# Altium schematic symbol library Maxim Amplifiers and Comparators.SchLib: 420 symbols (part 9 of 16)
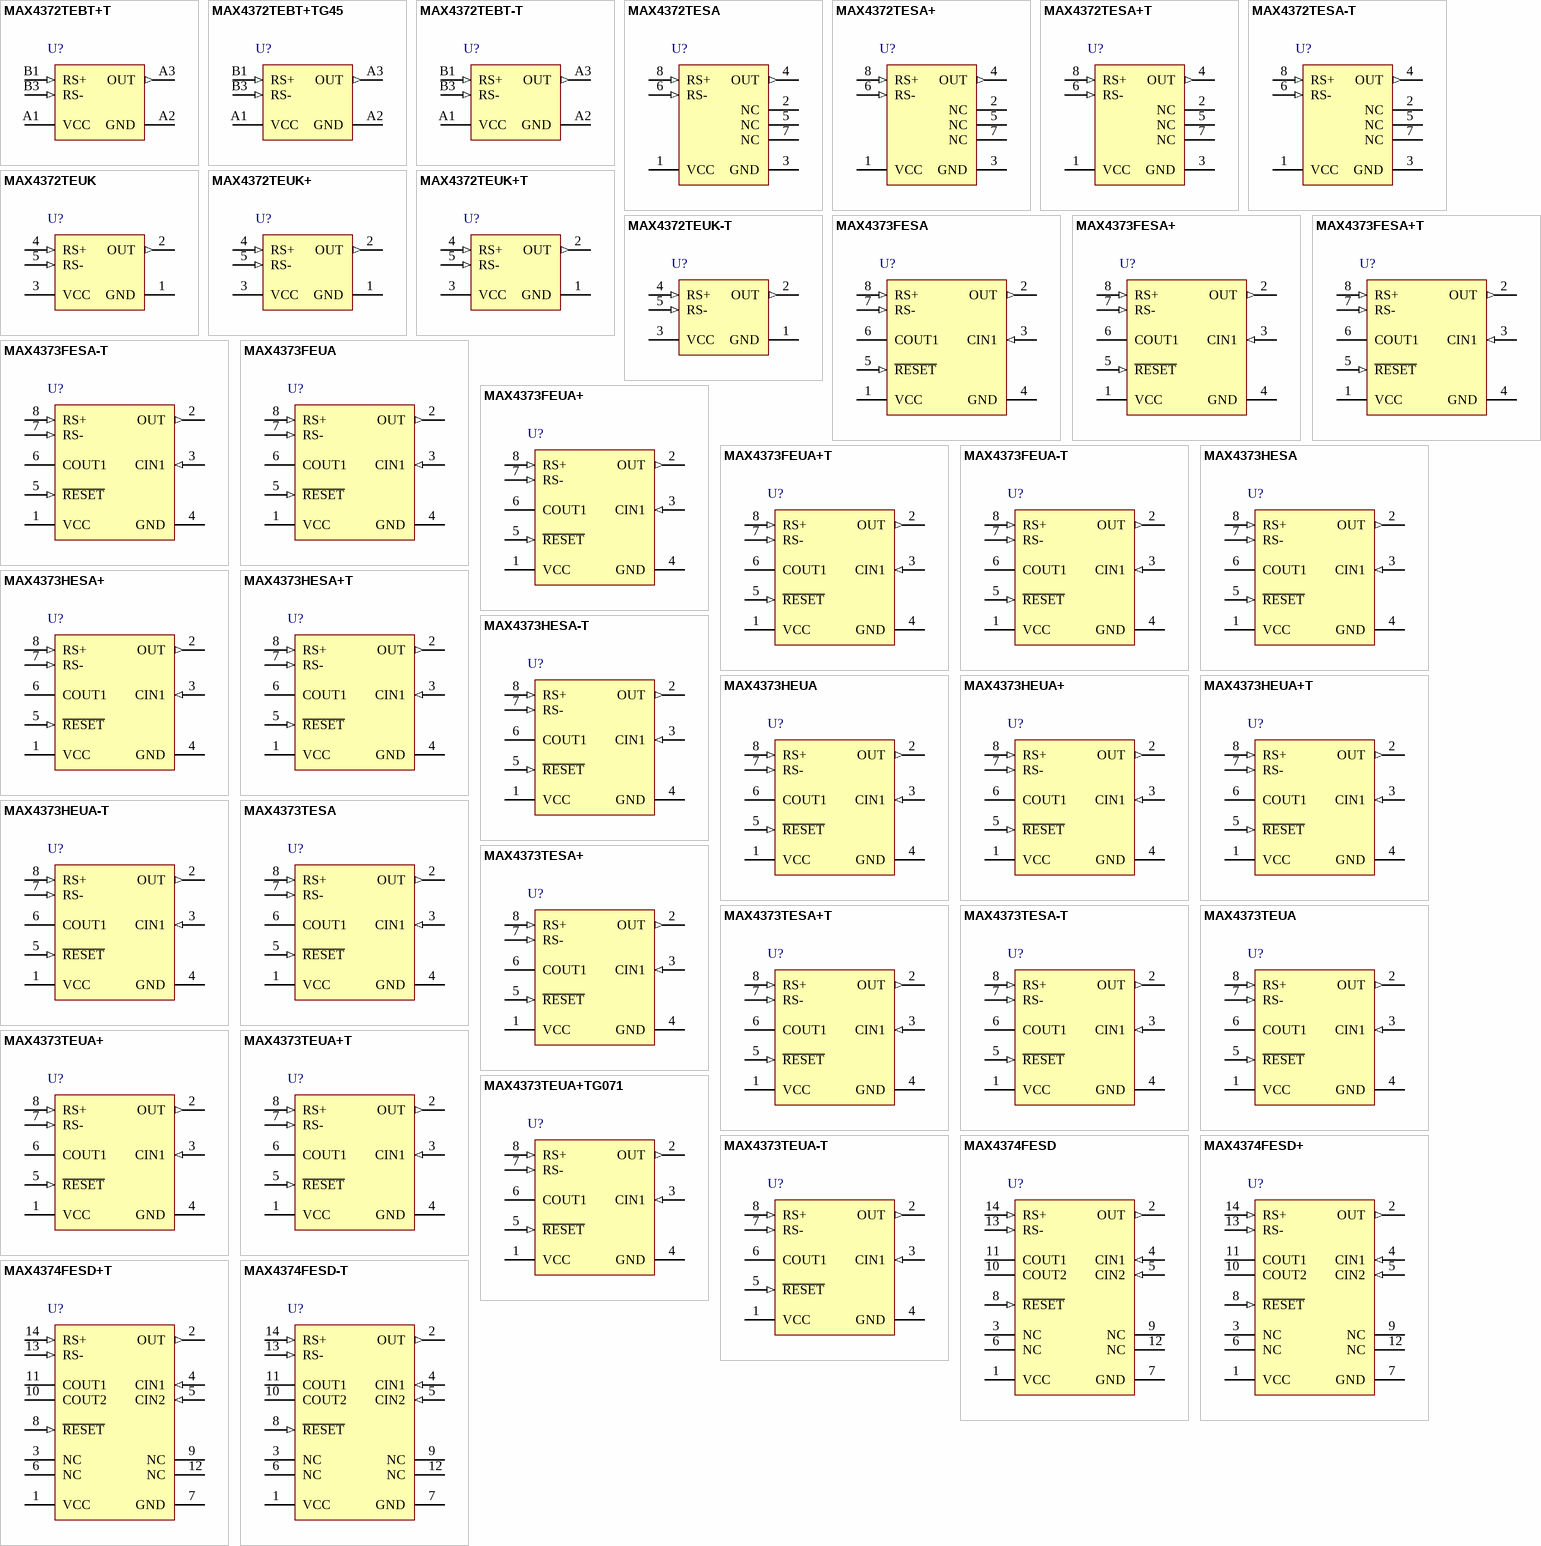
[diagram p18: symbols MAX4372TEBT+T to MAX4374FESD-T]

## MAX4373FESA+
designator U?
Low-cost, Micropower, High-Side Current-Sense Amplifier + Comparator + Reference, 20 V / V Gain, -40 to 85 degC, 8-Pin SOIC (S8+2), Pb-Free; PartNumber: MAX4373FESA+; Bi-Dir. Curr. Sense: No; Gain: 20 V/V, 50 V/V ,100 V/V; DatasheetVersion: Rev. 4; PackageVersion: Rev. D, 10/2012; PackageReference: S8+2; PackageDescription: 8-Pin Small-Outline IC, Narrow (0.15in) (S8+2), Body 4.90 x 3.90 mm, Pitch 1.27 mm; Supplier 1: Digi-Key; Supplier Part Number 1: MAX4373FESA+-ND; Supplier 2: Mouser; Supplier Part Number 2: 700-MAX4373FESA; Mounting Technology: Surface Mount; Code_JEDEC: MS012; ComponentLink1Description: Manufacturer URL; ComponentLink1URL: http://www.maximintegrated.com/; ComponentLink2Description: Datasheet; ComponentLink2URL: http://datasheets.maximintegrated.com/en/ds/MAX4373-MAX4375.pdf; ComponentLink3Description: Package Specification; ComponentLink3URL: http://pdfserv.maximintegrated.com/package_dwgs/21-0041.PDF
footprint MAXM-S8+2_N (SOIC, 8-Leads, Body 4.90x3.90mm, Pitch 1.27mm, IPC Medium Density)
footprint MAXM-S8+2_L (SOIC, 8-Leads, Body 4.90x3.90mm, Pitch 1.27mm, IPC High Density)
footprint MAXM-S8+2_M (SOIC, 8-Leads, Body 4.90x3.90mm, Pitch 1.27mm, IPC Low Density)
pins: 1 VCC (power) "Supply Voltage Input", 2 OUT (out) "Voltage Output. VOUT is proportional to VSENSE (VRS+ - VRS-).", 3 CIN1 (in) "Comparator Input 1. Positive input of an internal comparator. The negative terminal is connected to a 0.6V internal reference.", 4 GND (power) "Ground", 5 ~{RESET} (in) "Reset Input. Resets the output latch of the comparator at CIN1.", 6 COUT1 (oc) "Open-Drain Comparator Output. Latching output of the comparator controlled by CIN1. Connect R\E\S\E\T\ to GND to disable the latch.", 7 RS- (in) "Load-Side Connection for the External Sense Resistor", 8 RS+ (in) "Power Connection to the External Sense Resistor"

## MAX4373FESA+T
designator U?
Low-cost, Micropower, High-Side Current-Sense Amplifier + Comparator + Reference, 20 V / V Gain, -40 to 85 degC, 8-Pin SOIC (S8+2), Pb-Free, Tape and Reel; PartNumber: MAX4373FESA+T; Bi-Dir. Curr. Sense: No; Gain: 20 V/V, 50 V/V ,100 V/V; DatasheetVersion: Rev. 4; PackageVersion: Rev. D, 10/2012; PackageReference: S8+2; PackageDescription: 8-Pin Small-Outline IC, Narrow (0.15in) (S8+2), Body 4.90 x 3.90 mm, Pitch 1.27 mm; Supplier 1: Digi-Key; Supplier Part Number 1: MAX4373FESA+T-ND; Supplier 2: Mouser; Supplier Part Number 2: 700-MAX4373FESA+T; Mounting Technology: Surface Mount; Code_JEDEC: MS012; ComponentLink1Description: Manufacturer URL; ComponentLink1URL: http://www.maximintegrated.com/; ComponentLink2Description: Datasheet; ComponentLink2URL: http://datasheets.maximintegrated.com/en/ds/MAX4373-MAX4375.pdf; ComponentLink3Description: Package Specification; ComponentLink3URL: http://pdfserv.maximintegrated.com/package_dwgs/21-0041.PDF
footprint MAXM-S8+2_N (SOIC, 8-Leads, Body 4.90x3.90mm, Pitch 1.27mm, IPC Medium Density)
footprint MAXM-S8+2_L (SOIC, 8-Leads, Body 4.90x3.90mm, Pitch 1.27mm, IPC High Density)
footprint MAXM-S8+2_M (SOIC, 8-Leads, Body 4.90x3.90mm, Pitch 1.27mm, IPC Low Density)
pins: 1 VCC (power) "Supply Voltage Input", 2 OUT (out) "Voltage Output. VOUT is proportional to VSENSE (VRS+ - VRS-).", 3 CIN1 (in) "Comparator Input 1. Positive input of an internal comparator. The negative terminal is connected to a 0.6V internal reference.", 4 GND (power) "Ground", 5 ~{RESET} (in) "Reset Input. Resets the output latch of the comparator at CIN1.", 6 COUT1 (oc) "Open-Drain Comparator Output. Latching output of the comparator controlled by CIN1. Connect R\E\S\E\T\ to GND to disable the latch.", 7 RS- (in) "Load-Side Connection for the External Sense Resistor", 8 RS+ (in) "Power Connection to the External Sense Resistor"

## MAX4373FESA-T
designator U?
Low-cost, Micropower, High-Side Current-Sense Amplifier + Comparator + Reference, 20 V / V Gain, -40 to 85 degC, 8-Pin SOIC (S8-2), Tape and Reel; PartNumber: MAX4373FESA-T; Bi-Dir. Curr. Sense: No; Gain: 20 V/V, 50 V/V ,100 V/V; DatasheetVersion: Rev. 4; PackageVersion: Rev. D, 10/2012; PackageReference: S8-2; PackageDescription: 8-Pin Small-Outline IC, Narrow (0.15in) (S8-2), Body 4.90 x 3.90 mm, Pitch 1.27 mm; Supplier 1: Digi-Key; Supplier Part Number 1: MAX4373FESA-T-ND; Supplier 2: Mouser; Supplier Part Number 2: 700-MAX4373FESA-T-; Mounting Technology: Surface Mount; Code_JEDEC: MS012; ComponentLink1Description: Manufacturer URL; ComponentLink1URL: http://www.maximintegrated.com/; ComponentLink2Description: Datasheet; ComponentLink2URL: http://datasheets.maximintegrated.com/en/ds/MAX4373-MAX4375.pdf; ComponentLink3Description: Package Specification; ComponentLink3URL: http://pdfserv.maximintegrated.com/package_dwgs/21-0041.PDF
footprint MAXM-S8-2_N (SOIC, 8-Leads, Body 4.90x3.90mm, Pitch 1.27mm, IPC Medium Density)
footprint MAXM-S8-2_L (SOIC, 8-Leads, Body 4.90x3.90mm, Pitch 1.27mm, IPC High Density)
footprint MAXM-S8-2_M (SOIC, 8-Leads, Body 4.90x3.90mm, Pitch 1.27mm, IPC Low Density)
pins: 1 VCC (power) "Supply Voltage Input", 2 OUT (out) "Voltage Output. VOUT is proportional to VSENSE (VRS+ - VRS-).", 3 CIN1 (in) "Comparator Input 1. Positive input of an internal comparator. The negative terminal is connected to a 0.6V internal reference.", 4 GND (power) "Ground", 5 ~{RESET} (in) "Reset Input. Resets the output latch of the comparator at CIN1.", 6 COUT1 (oc) "Open-Drain Comparator Output. Latching output of the comparator controlled by CIN1. Connect R\E\S\E\T\ to GND to disable the latch.", 7 RS- (in) "Load-Side Connection for the External Sense Resistor", 8 RS+ (in) "Power Connection to the External Sense Resistor"

## MAX4373FEUA
designator U?
Low-cost, Micropower, High-Side Current-Sense Amplifier + Comparator + Reference, 20 V / V Gain, -40 to 85 degC, 8-Pin SOP (U8-1); PartNumber: MAX4373FEUA; Bi-Dir. Curr. Sense: No; Gain: 20 V/V, 50 V/V ,100 V/V; DatasheetVersion: Rev. 4; PackageVersion: Rev. L, 08/2009; PackageReference: U8-1; PackageDescription: 8-Pin Micro-MAX, Thin Shrink Small-Outline (U8-1), Body 3 x 3 mm, Pitch 0.65mm; Supplier 1: Digi-Key; Supplier Part Number 1: MAX4373FEUA-ND; Supplier 2: Mouser; Supplier Part Number 2: 700-MAX4373FEUA-NR; Mounting Technology: Surface Mount; Code_JEDEC: MO-187; ComponentLink1Description: Manufacturer URL; ComponentLink1URL: http://www.maximintegrated.com/; ComponentLink2Description: Datasheet; ComponentLink2URL: http://datasheets.maximintegrated.com/en/ds/MAX4373-MAX4375.pdf; ComponentLink3Description: Package Specification; ComponentLink3URL: http://pdfserv.maximintegrated.com/package_dwgs/21-0036.PDF
footprint MAXM-U8-1_N (SOP, 8-Leads, Body 3x3mm, Pitch 0.65mm, IPC Medium Density)
footprint MAXM-U8-1_L (SOP, 8-Leads, Body 3x3mm, Pitch 0.65mm, IPC High Density)
footprint MAXM-U8-1_M (SOP, 8-Leads, Body 3x3mm, Pitch 0.65mm, IPC Low Density)
pins: 1 VCC (power) "Supply Voltage Input", 2 OUT (out) "Voltage Output. VOUT is proportional to VSENSE (VRS+ - VRS-).", 3 CIN1 (in) "Comparator Input 1. Positive input of an internal comparator. The negative terminal is connected to a 0.6V internal reference.", 4 GND (power) "Ground", 5 ~{RESET} (in) "Reset Input. Resets the output latch of the comparator at CIN1.", 6 COUT1 (oc) "Open-Drain Comparator Output. Latching output of the comparator controlled by CIN1. Connect R\E\S\E\T\ to GND to disable the latch.", 7 RS- (in) "Load-Side Connection for the External Sense Resistor", 8 RS+ (in) "Power Connection to the External Sense Resistor"

## MAX4373FEUA+
designator U?
Low-cost, Micropower, High-Side Current-Sense Amplifier + Comparator + Reference, 20 V / V Gain, -40 to 85 degC, 8-Pin SOP (U8+1), Pb-Free; PartNumber: MAX4373FEUA+; Bi-Dir. Curr. Sense: No; Gain: 20 V/V, 50 V/V ,100 V/V; DatasheetVersion: Rev. 4; PackageVersion: Rev. L, 08/2009; PackageReference: U8+1; PackageDescription: 8-Pin Micro-MAX, Thin Shrink Small-Outline (U8+1), Body 3 x 3 mm, Pitch 0.65 mm; Supplier 1: Digi-Key; Supplier Part Number 1: MAX4373FEUA+-ND; Supplier 2: Mouser; Supplier Part Number 2: 700-MAX4373FEUA; Mounting Technology: Surface Mount; Code_JEDEC: MO-187; ComponentLink1Description: Manufacturer URL; ComponentLink1URL: http://www.maximintegrated.com/; ComponentLink2Description: Datasheet; ComponentLink2URL: http://datasheets.maximintegrated.com/en/ds/MAX4373-MAX4375.pdf; ComponentLink3Description: Package Specification; ComponentLink3URL: http://pdfserv.maximintegrated.com/package_dwgs/21-0036.PDF
footprint MAXM-U8+1_N (SOP, 8-Leads, Body 3x3mm, Pitch 0.65mm, IPC Medium Density)
footprint MAXM-U8+1_L (SOP, 8-Leads, Body 3x3mm, Pitch 0.65mm, IPC High Density)
footprint MAXM-U8+1_M (SOP, 8-Leads, Body 3x3mm, Pitch 0.65mm, IPC Low Density)
pins: 1 VCC (power) "Supply Voltage Input", 2 OUT (out) "Voltage Output. VOUT is proportional to VSENSE (VRS+ - VRS-).", 3 CIN1 (in) "Comparator Input 1. Positive input of an internal comparator. The negative terminal is connected to a 0.6V internal reference.", 4 GND (power) "Ground", 5 ~{RESET} (in) "Reset Input. Resets the output latch of the comparator at CIN1.", 6 COUT1 (oc) "Open-Drain Comparator Output. Latching output of the comparator controlled by CIN1. Connect R\E\S\E\T\ to GND to disable the latch.", 7 RS- (in) "Load-Side Connection for the External Sense Resistor", 8 RS+ (in) "Power Connection to the External Sense Resistor"

## MAX4373FEUA+T
designator U?
Low-cost, Micropower, High-Side Current-Sense Amplifier + Comparator + Reference, 20 V / V Gain, -40 to 85 degC, 8-Pin SOP (U8+1), Pb-Free, Tape and Reel; PartNumber: MAX4373FEUA+T; Bi-Dir. Curr. Sense: No; Gain: 20 V/V, 50 V/V ,100 V/V; DatasheetVersion: Rev. 4; PackageVersion: Rev. L, 08/2009; PackageReference: U8+1; PackageDescription: 8-Pin Micro-MAX, Thin Shrink Small-Outline (U8+1), Body 3 x 3 mm, Pitch 0.65 mm; Supplier 1: Digi-Key; Supplier Part Number 1: MAX4373FEUA+T-ND; Supplier 2: Mouser; Supplier Part Number 2: 700-MAX4373FEUA+T; Mounting Technology: Surface Mount; Code_JEDEC: MO-187; ComponentLink1Description: Manufacturer URL; ComponentLink1URL: http://www.maximintegrated.com/; ComponentLink2Description: Datasheet; ComponentLink2URL: http://datasheets.maximintegrated.com/en/ds/MAX4373-MAX4375.pdf; ComponentLink3Description: Package Specification; ComponentLink3URL: http://pdfserv.maximintegrated.com/package_dwgs/21-0036.PDF
footprint MAXM-U8+1_N (SOP, 8-Leads, Body 3x3mm, Pitch 0.65mm, IPC Medium Density)
footprint MAXM-U8+1_L (SOP, 8-Leads, Body 3x3mm, Pitch 0.65mm, IPC High Density)
footprint MAXM-U8+1_M (SOP, 8-Leads, Body 3x3mm, Pitch 0.65mm, IPC Low Density)
pins: 1 VCC (power) "Supply Voltage Input", 2 OUT (out) "Voltage Output. VOUT is proportional to VSENSE (VRS+ - VRS-).", 3 CIN1 (in) "Comparator Input 1. Positive input of an internal comparator. The negative terminal is connected to a 0.6V internal reference.", 4 GND (power) "Ground", 5 ~{RESET} (in) "Reset Input. Resets the output latch of the comparator at CIN1.", 6 COUT1 (oc) "Open-Drain Comparator Output. Latching output of the comparator controlled by CIN1. Connect R\E\S\E\T\ to GND to disable the latch.", 7 RS- (in) "Load-Side Connection for the External Sense Resistor", 8 RS+ (in) "Power Connection to the External Sense Resistor"

## MAX4373FEUA-T
designator U?
Low-cost, Micropower, High-Side Current-Sense Amplifier + Comparator + Reference, 20 V / V Gain, -40 to 85 degC, 8-Pin SOP (U8-1), Tape and Reel; PartNumber: MAX4373FEUA-T; Bi-Dir. Curr. Sense: No; Gain: 20 V/V, 50 V/V ,100 V/V; DatasheetVersion: Rev. 4; PackageVersion: Rev. L, 08/2009; PackageReference: U8-1; PackageDescription: 8-Pin Micro-MAX, Thin Shrink Small-Outline (U8-1), Body 3 x 3 mm, Pitch 0.65mm; Supplier 1: Digi-Key; Supplier Part Number 1: MAX4373FEUA-T-ND; Supplier 2: Mouser; Supplier Part Number 2: 700-MAX4373FEUA-T-; Mounting Technology: Surface Mount; Code_JEDEC: MO-187; ComponentLink1Description: Manufacturer URL; ComponentLink1URL: http://www.maximintegrated.com/; ComponentLink2Description: Datasheet; ComponentLink2URL: http://datasheets.maximintegrated.com/en/ds/MAX4373-MAX4375.pdf; ComponentLink3Description: Package Specification; ComponentLink3URL: http://pdfserv.maximintegrated.com/package_dwgs/21-0036.PDF
footprint MAXM-U8-1_N (SOP, 8-Leads, Body 3x3mm, Pitch 0.65mm, IPC Medium Density)
footprint MAXM-U8-1_L (SOP, 8-Leads, Body 3x3mm, Pitch 0.65mm, IPC High Density)
footprint MAXM-U8-1_M (SOP, 8-Leads, Body 3x3mm, Pitch 0.65mm, IPC Low Density)
pins: 1 VCC (power) "Supply Voltage Input", 2 OUT (out) "Voltage Output. VOUT is proportional to VSENSE (VRS+ - VRS-).", 3 CIN1 (in) "Comparator Input 1. Positive input of an internal comparator. The negative terminal is connected to a 0.6V internal reference.", 4 GND (power) "Ground", 5 ~{RESET} (in) "Reset Input. Resets the output latch of the comparator at CIN1.", 6 COUT1 (oc) "Open-Drain Comparator Output. Latching output of the comparator controlled by CIN1. Connect R\E\S\E\T\ to GND to disable the latch.", 7 RS- (in) "Load-Side Connection for the External Sense Resistor", 8 RS+ (in) "Power Connection to the External Sense Resistor"

## MAX4373HESA
designator U?
Low-cost, Micropower, High-Side Current-Sense Amplifier + Comparator + Reference, 20 V / V Gain, -40 to 85 degC, 8-Pin SOIC (S8-2); PartNumber: MAX4373HESA; Bi-Dir. Curr. Sense: No; Gain: 20 V/V, 50 V/V ,100 V/V; DatasheetVersion: Rev. 4; PackageVersion: Rev. D, 10/2012; PackageReference: S8-2; PackageDescription: 8-Pin Small-Outline IC, Narrow (0.15in) (S8-2), Body 4.90 x 3.90 mm, Pitch 1.27 mm; Supplier 1: Digi-Key; Supplier Part Number 1: MAX4373HESA-ND; Supplier 2: Mouser; Supplier Part Number 2: 700-MAX4373HESA-NR; Mounting Technology: Surface Mount; Code_JEDEC: MS012; ComponentLink1Description: Manufacturer URL; ComponentLink1URL: http://www.maximintegrated.com/; ComponentLink2Description: Datasheet; ComponentLink2URL: http://datasheets.maximintegrated.com/en/ds/MAX4373-MAX4375.pdf; ComponentLink3Description: Package Specification; ComponentLink3URL: http://pdfserv.maximintegrated.com/package_dwgs/21-0041.PDF
footprint MAXM-S8-2_N (SOIC, 8-Leads, Body 4.90x3.90mm, Pitch 1.27mm, IPC Medium Density)
footprint MAXM-S8-2_L (SOIC, 8-Leads, Body 4.90x3.90mm, Pitch 1.27mm, IPC High Density)
footprint MAXM-S8-2_M (SOIC, 8-Leads, Body 4.90x3.90mm, Pitch 1.27mm, IPC Low Density)
pins: 1 VCC (power) "Supply Voltage Input", 2 OUT (out) "Voltage Output. VOUT is proportional to VSENSE (VRS+ - VRS-).", 3 CIN1 (in) "Comparator Input 1. Positive input of an internal comparator. The negative terminal is connected to a 0.6V internal reference.", 4 GND (power) "Ground", 5 ~{RESET} (in) "Reset Input. Resets the output latch of the comparator at CIN1.", 6 COUT1 (oc) "Open-Drain Comparator Output. Latching output of the comparator controlled by CIN1. Connect R\E\S\E\T\ to GND to disable the latch.", 7 RS- (in) "Load-Side Connection for the External Sense Resistor", 8 RS+ (in) "Power Connection to the External Sense Resistor"

## MAX4373HESA+
designator U?
Low-cost, Micropower, High-Side Current-Sense Amplifier + Comparator + Reference, 20 V / V Gain, -40 to 85 degC, 8-Pin SOIC (S8+2), Pb-Free; PartNumber: MAX4373HESA+; Bi-Dir. Curr. Sense: No; Gain: 20 V/V, 50 V/V ,100 V/V; DatasheetVersion: Rev. 4; PackageVersion: Rev. D, 10/2012; PackageReference: S8+2; PackageDescription: 8-Pin Small-Outline IC, Narrow (0.15in) (S8+2), Body 4.90 x 3.90 mm, Pitch 1.27 mm; Supplier 1: Digi-Key; Supplier Part Number 1: MAX4373HESA+-ND; Supplier 2: Mouser; Supplier Part Number 2: 700-MAX4373HESA; Mounting Technology: Surface Mount; Code_JEDEC: MS012; ComponentLink1Description: Manufacturer URL; ComponentLink1URL: http://www.maximintegrated.com/; ComponentLink2Description: Datasheet; ComponentLink2URL: http://datasheets.maximintegrated.com/en/ds/MAX4373-MAX4375.pdf; ComponentLink3Description: Package Specification; ComponentLink3URL: http://pdfserv.maximintegrated.com/package_dwgs/21-0041.PDF
footprint MAXM-S8+2_N (SOIC, 8-Leads, Body 4.90x3.90mm, Pitch 1.27mm, IPC Medium Density)
footprint MAXM-S8+2_L (SOIC, 8-Leads, Body 4.90x3.90mm, Pitch 1.27mm, IPC High Density)
footprint MAXM-S8+2_M (SOIC, 8-Leads, Body 4.90x3.90mm, Pitch 1.27mm, IPC Low Density)
pins: 1 VCC (power) "Supply Voltage Input", 2 OUT (out) "Voltage Output. VOUT is proportional to VSENSE (VRS+ - VRS-).", 3 CIN1 (in) "Comparator Input 1. Positive input of an internal comparator. The negative terminal is connected to a 0.6V internal reference.", 4 GND (power) "Ground", 5 ~{RESET} (in) "Reset Input. Resets the output latch of the comparator at CIN1.", 6 COUT1 (oc) "Open-Drain Comparator Output. Latching output of the comparator controlled by CIN1. Connect R\E\S\E\T\ to GND to disable the latch.", 7 RS- (in) "Load-Side Connection for the External Sense Resistor", 8 RS+ (in) "Power Connection to the External Sense Resistor"

## MAX4373HESA+T
designator U?
Low-cost, Micropower, High-Side Current-Sense Amplifier + Comparator + Reference, 20 V / V Gain, -40 to 85 degC, 8-Pin SOIC (S8+2), Pb-Free, Tape and Reel; PartNumber: MAX4373HESA+T; Bi-Dir. Curr. Sense: No; Gain: 20 V/V, 50 V/V ,100 V/V; DatasheetVersion: Rev. 4; PackageVersion: Rev. D, 10/2012; PackageReference: S8+2; PackageDescription: 8-Pin Small-Outline IC, Narrow (0.15in) (S8+2), Body 4.90 x 3.90 mm, Pitch 1.27 mm; Supplier 1: Digi-Key; Supplier Part Number 1: MAX4373HESA+T-ND; Supplier 2: Mouser; Supplier Part Number 2: 700-MAX4373HESA+T; Mounting Technology: Surface Mount; Code_JEDEC: MS012; ComponentLink1Description: Manufacturer URL; ComponentLink1URL: http://www.maximintegrated.com/; ComponentLink2Description: Datasheet; ComponentLink2URL: http://datasheets.maximintegrated.com/en/ds/MAX4373-MAX4375.pdf; ComponentLink3Description: Package Specification; ComponentLink3URL: http://pdfserv.maximintegrated.com/package_dwgs/21-0041.PDF
footprint MAXM-S8+2_N (SOIC, 8-Leads, Body 4.90x3.90mm, Pitch 1.27mm, IPC Medium Density)
footprint MAXM-S8+2_L (SOIC, 8-Leads, Body 4.90x3.90mm, Pitch 1.27mm, IPC High Density)
footprint MAXM-S8+2_M (SOIC, 8-Leads, Body 4.90x3.90mm, Pitch 1.27mm, IPC Low Density)
pins: 1 VCC (power) "Supply Voltage Input", 2 OUT (out) "Voltage Output. VOUT is proportional to VSENSE (VRS+ - VRS-).", 3 CIN1 (in) "Comparator Input 1. Positive input of an internal comparator. The negative terminal is connected to a 0.6V internal reference.", 4 GND (power) "Ground", 5 ~{RESET} (in) "Reset Input. Resets the output latch of the comparator at CIN1.", 6 COUT1 (oc) "Open-Drain Comparator Output. Latching output of the comparator controlled by CIN1. Connect R\E\S\E\T\ to GND to disable the latch.", 7 RS- (in) "Load-Side Connection for the External Sense Resistor", 8 RS+ (in) "Power Connection to the External Sense Resistor"

## MAX4373HESA-T
designator U?
Low-cost, Micropower, High-Side Current-Sense Amplifier + Comparator + Reference, 20 V / V Gain, -40 to 85 degC, 8-Pin SOIC (S8-2), Tape and Reel; PartNumber: MAX4373HESA-T; Bi-Dir. Curr. Sense: No; Gain: 20 V/V, 50 V/V ,100 V/V; DatasheetVersion: Rev. 4; PackageVersion: Rev. D, 10/2012; PackageReference: S8-2; PackageDescription: 8-Pin Small-Outline IC, Narrow (0.15in) (S8-2), Body 4.90 x 3.90 mm, Pitch 1.27 mm; Supplier 1: Digi-Key; Supplier Part Number 1: MAX4373HESA-T-ND; Supplier 2: Mouser; Supplier Part Number 2: 700-MAX4373HESA-T-; Mounting Technology: Surface Mount; Code_JEDEC: MS012; ComponentLink1Description: Manufacturer URL; ComponentLink1URL: http://www.maximintegrated.com/; ComponentLink2Description: Datasheet; ComponentLink2URL: http://datasheets.maximintegrated.com/en/ds/MAX4373-MAX4375.pdf; ComponentLink3Description: Package Specification; ComponentLink3URL: http://pdfserv.maximintegrated.com/package_dwgs/21-0041.PDF
footprint MAXM-S8-2_N (SOIC, 8-Leads, Body 4.90x3.90mm, Pitch 1.27mm, IPC Medium Density)
footprint MAXM-S8-2_L (SOIC, 8-Leads, Body 4.90x3.90mm, Pitch 1.27mm, IPC High Density)
footprint MAXM-S8-2_M (SOIC, 8-Leads, Body 4.90x3.90mm, Pitch 1.27mm, IPC Low Density)
pins: 1 VCC (power) "Supply Voltage Input", 2 OUT (out) "Voltage Output. VOUT is proportional to VSENSE (VRS+ - VRS-).", 3 CIN1 (in) "Comparator Input 1. Positive input of an internal comparator. The negative terminal is connected to a 0.6V internal reference.", 4 GND (power) "Ground", 5 ~{RESET} (in) "Reset Input. Resets the output latch of the comparator at CIN1.", 6 COUT1 (oc) "Open-Drain Comparator Output. Latching output of the comparator controlled by CIN1. Connect R\E\S\E\T\ to GND to disable the latch.", 7 RS- (in) "Load-Side Connection for the External Sense Resistor", 8 RS+ (in) "Power Connection to the External Sense Resistor"

## MAX4373HEUA
designator U?
Low-cost, Micropower, High-Side Current-Sense Amplifier + Comparator + Reference, 20 V / V Gain, -40 to 85 degC, 8-Pin SOP (U8-1); PartNumber: MAX4373HEUA; Bi-Dir. Curr. Sense: No; Gain: 20 V/V, 50 V/V ,100 V/V; DatasheetVersion: Rev. 4; PackageVersion: Rev. L, 08/2009; PackageReference: U8-1; PackageDescription: 8-Pin Micro-MAX, Thin Shrink Small-Outline (U8-1), Body 3 x 3 mm, Pitch 0.65mm; Supplier 1: Digi-Key; Supplier Part Number 1: MAX4373HEUA-ND; Supplier 2: Mouser; Supplier Part Number 2: 700-MAX4373HEUA-NR; Mounting Technology: Surface Mount; Code_JEDEC: MO-187; ComponentLink1Description: Manufacturer URL; ComponentLink1URL: http://www.maximintegrated.com/; ComponentLink2Description: Datasheet; ComponentLink2URL: http://datasheets.maximintegrated.com/en/ds/MAX4373-MAX4375.pdf; ComponentLink3Description: Package Specification; ComponentLink3URL: http://pdfserv.maximintegrated.com/package_dwgs/21-0036.PDF
footprint MAXM-U8-1_N (SOP, 8-Leads, Body 3x3mm, Pitch 0.65mm, IPC Medium Density)
footprint MAXM-U8-1_L (SOP, 8-Leads, Body 3x3mm, Pitch 0.65mm, IPC High Density)
footprint MAXM-U8-1_M (SOP, 8-Leads, Body 3x3mm, Pitch 0.65mm, IPC Low Density)
pins: 1 VCC (power) "Supply Voltage Input", 2 OUT (out) "Voltage Output. VOUT is proportional to VSENSE (VRS+ - VRS-).", 3 CIN1 (in) "Comparator Input 1. Positive input of an internal comparator. The negative terminal is connected to a 0.6V internal reference.", 4 GND (power) "Ground", 5 ~{RESET} (in) "Reset Input. Resets the output latch of the comparator at CIN1.", 6 COUT1 (oc) "Open-Drain Comparator Output. Latching output of the comparator controlled by CIN1. Connect R\E\S\E\T\ to GND to disable the latch.", 7 RS- (in) "Load-Side Connection for the External Sense Resistor", 8 RS+ (in) "Power Connection to the External Sense Resistor"

## MAX4373HEUA+
designator U?
Low-cost, Micropower, High-Side Current-Sense Amplifier + Comparator + Reference, 20 V / V Gain, -40 to 85 degC, 8-Pin SOP (U8+1), Pb-Free; PartNumber: MAX4373HEUA+; Bi-Dir. Curr. Sense: No; Gain: 20 V/V, 50 V/V ,100 V/V; DatasheetVersion: Rev. 4; PackageVersion: Rev. L, 08/2009; PackageReference: U8+1; PackageDescription: 8-Pin Micro-MAX, Thin Shrink Small-Outline (U8+1), Body 3 x 3 mm, Pitch 0.65 mm; Supplier 1: Digi-Key; Supplier Part Number 1: MAX4373HEUA+-ND; Supplier 2: Mouser; Supplier Part Number 2: 700-MAX4373HEUA; Mounting Technology: Surface Mount; Code_JEDEC: MO-187; ComponentLink1Description: Manufacturer URL; ComponentLink1URL: http://www.maximintegrated.com/; ComponentLink2Description: Datasheet; ComponentLink2URL: http://datasheets.maximintegrated.com/en/ds/MAX4373-MAX4375.pdf; ComponentLink3Description: Package Specification; ComponentLink3URL: http://pdfserv.maximintegrated.com/package_dwgs/21-0036.PDF
footprint MAXM-U8+1_N (SOP, 8-Leads, Body 3x3mm, Pitch 0.65mm, IPC Medium Density)
footprint MAXM-U8+1_L (SOP, 8-Leads, Body 3x3mm, Pitch 0.65mm, IPC High Density)
footprint MAXM-U8+1_M (SOP, 8-Leads, Body 3x3mm, Pitch 0.65mm, IPC Low Density)
pins: 1 VCC (power) "Supply Voltage Input", 2 OUT (out) "Voltage Output. VOUT is proportional to VSENSE (VRS+ - VRS-).", 3 CIN1 (in) "Comparator Input 1. Positive input of an internal comparator. The negative terminal is connected to a 0.6V internal reference.", 4 GND (power) "Ground", 5 ~{RESET} (in) "Reset Input. Resets the output latch of the comparator at CIN1.", 6 COUT1 (oc) "Open-Drain Comparator Output. Latching output of the comparator controlled by CIN1. Connect R\E\S\E\T\ to GND to disable the latch.", 7 RS- (in) "Load-Side Connection for the External Sense Resistor", 8 RS+ (in) "Power Connection to the External Sense Resistor"

## MAX4373HEUA+T
designator U?
Low-cost, Micropower, High-Side Current-Sense Amplifier + Comparator + Reference, 20 V / V Gain, -40 to 85 degC, 8-Pin SOP (U8+1), Pb-Free, Tape and Reel; PartNumber: MAX4373HEUA+T; Bi-Dir. Curr. Sense: No; Gain: 20 V/V, 50 V/V ,100 V/V; DatasheetVersion: Rev. 4; PackageVersion: Rev. L, 08/2009; PackageReference: U8+1; PackageDescription: 8-Pin Micro-MAX, Thin Shrink Small-Outline (U8+1), Body 3 x 3 mm, Pitch 0.65 mm; Supplier 1: Digi-Key; Supplier Part Number 1: MAX4373HEUA+T-ND; Supplier 2: Mouser; Supplier Part Number 2: 700-MAX4373HEUA+T; Mounting Technology: Surface Mount; Code_JEDEC: MO-187; ComponentLink1Description: Manufacturer URL; ComponentLink1URL: http://www.maximintegrated.com/; ComponentLink2Description: Datasheet; ComponentLink2URL: http://datasheets.maximintegrated.com/en/ds/MAX4373-MAX4375.pdf; ComponentLink3Description: Package Specification; ComponentLink3URL: http://pdfserv.maximintegrated.com/package_dwgs/21-0036.PDF
footprint MAXM-U8+1_N (SOP, 8-Leads, Body 3x3mm, Pitch 0.65mm, IPC Medium Density)
footprint MAXM-U8+1_L (SOP, 8-Leads, Body 3x3mm, Pitch 0.65mm, IPC High Density)
footprint MAXM-U8+1_M (SOP, 8-Leads, Body 3x3mm, Pitch 0.65mm, IPC Low Density)
pins: 1 VCC (power) "Supply Voltage Input", 2 OUT (out) "Voltage Output. VOUT is proportional to VSENSE (VRS+ - VRS-).", 3 CIN1 (in) "Comparator Input 1. Positive input of an internal comparator. The negative terminal is connected to a 0.6V internal reference.", 4 GND (power) "Ground", 5 ~{RESET} (in) "Reset Input. Resets the output latch of the comparator at CIN1.", 6 COUT1 (oc) "Open-Drain Comparator Output. Latching output of the comparator controlled by CIN1. Connect R\E\S\E\T\ to GND to disable the latch.", 7 RS- (in) "Load-Side Connection for the External Sense Resistor", 8 RS+ (in) "Power Connection to the External Sense Resistor"

## MAX4373HEUA-T
designator U?
Low-cost, Micropower, High-Side Current-Sense Amplifier + Comparator + Reference, 20 V / V Gain, -40 to 85 degC, 8-Pin SOP (U8-1), Tape and Reel; PartNumber: MAX4373HEUA-T; Bi-Dir. Curr. Sense: No; Gain: 20 V/V, 50 V/V ,100 V/V; DatasheetVersion: Rev. 4; PackageVersion: Rev. L, 08/2009; PackageReference: U8-1; PackageDescription: 8-Pin Micro-MAX, Thin Shrink Small-Outline (U8-1), Body 3 x 3 mm, Pitch 0.65mm; Supplier 1: Digi-Key; Supplier Part Number 1: MAX4373HEUA-T-ND; Supplier 2: Mouser; Supplier Part Number 2: 700-MAX4373HEUA-T-; Mounting Technology: Surface Mount; Code_JEDEC: MO-187; ComponentLink1Description: Manufacturer URL; ComponentLink1URL: http://www.maximintegrated.com/; ComponentLink2Description: Datasheet; ComponentLink2URL: http://datasheets.maximintegrated.com/en/ds/MAX4373-MAX4375.pdf; ComponentLink3Description: Package Specification; ComponentLink3URL: http://pdfserv.maximintegrated.com/package_dwgs/21-0036.PDF
footprint MAXM-U8-1_N (SOP, 8-Leads, Body 3x3mm, Pitch 0.65mm, IPC Medium Density)
footprint MAXM-U8-1_L (SOP, 8-Leads, Body 3x3mm, Pitch 0.65mm, IPC High Density)
footprint MAXM-U8-1_M (SOP, 8-Leads, Body 3x3mm, Pitch 0.65mm, IPC Low Density)
pins: 1 VCC (power) "Supply Voltage Input", 2 OUT (out) "Voltage Output. VOUT is proportional to VSENSE (VRS+ - VRS-).", 3 CIN1 (in) "Comparator Input 1. Positive input of an internal comparator. The negative terminal is connected to a 0.6V internal reference.", 4 GND (power) "Ground", 5 ~{RESET} (in) "Reset Input. Resets the output latch of the comparator at CIN1.", 6 COUT1 (oc) "Open-Drain Comparator Output. Latching output of the comparator controlled by CIN1. Connect R\E\S\E\T\ to GND to disable the latch.", 7 RS- (in) "Load-Side Connection for the External Sense Resistor", 8 RS+ (in) "Power Connection to the External Sense Resistor"

## MAX4373TESA
designator U?
Low-cost, Micropower, High-Side Current-Sense Amplifier + Comparator + Reference, 20 V / V Gain, -40 to 85 degC, 8-Pin SOIC (S8-2); PartNumber: MAX4373TESA; Bi-Dir. Curr. Sense: No; Gain: 20 V/V, 50 V/V ,100 V/V; DatasheetVersion: Rev. 4; PackageVersion: Rev. D, 10/2012; PackageReference: S8-2; PackageDescription: 8-Pin Small-Outline IC, Narrow (0.15in) (S8-2), Body 4.90 x 3.90 mm, Pitch 1.27 mm; Supplier 1: Digi-Key; Supplier Part Number 1: MAX4373TESA-ND; Supplier 2: Mouser; Supplier Part Number 2: 700-MAX4373TESA-NR; Mounting Technology: Surface Mount; Code_JEDEC: MS012; ComponentLink1Description: Manufacturer URL; ComponentLink1URL: http://www.maximintegrated.com/; ComponentLink2Description: Datasheet; ComponentLink2URL: http://datasheets.maximintegrated.com/en/ds/MAX4373-MAX4375.pdf; ComponentLink3Description: Package Specification; ComponentLink3URL: http://pdfserv.maximintegrated.com/package_dwgs/21-0041.PDF
footprint MAXM-S8-2_N (SOIC, 8-Leads, Body 4.90x3.90mm, Pitch 1.27mm, IPC Medium Density)
footprint MAXM-S8-2_L (SOIC, 8-Leads, Body 4.90x3.90mm, Pitch 1.27mm, IPC High Density)
footprint MAXM-S8-2_M (SOIC, 8-Leads, Body 4.90x3.90mm, Pitch 1.27mm, IPC Low Density)
pins: 1 VCC (power) "Supply Voltage Input", 2 OUT (out) "Voltage Output. VOUT is proportional to VSENSE (VRS+ - VRS-).", 3 CIN1 (in) "Comparator Input 1. Positive input of an internal comparator. The negative terminal is connected to a 0.6V internal reference.", 4 GND (power) "Ground", 5 ~{RESET} (in) "Reset Input. Resets the output latch of the comparator at CIN1.", 6 COUT1 (oc) "Open-Drain Comparator Output. Latching output of the comparator controlled by CIN1. Connect R\E\S\E\T\ to GND to disable the latch.", 7 RS- (in) "Load-Side Connection for the External Sense Resistor", 8 RS+ (in) "Power Connection to the External Sense Resistor"

## MAX4373TESA+
designator U?
Low-cost, Micropower, High-Side Current-Sense Amplifier + Comparator + Reference, 20 V / V Gain, -40 to 85 degC, 8-Pin SOIC (S8+2), Pb-Free; PartNumber: MAX4373TESA+; Bi-Dir. Curr. Sense: No; Gain: 20 V/V, 50 V/V ,100 V/V; DatasheetVersion: Rev. 4; PackageVersion: Rev. D, 10/2012; PackageReference: S8+2; PackageDescription: 8-Pin Small-Outline IC, Narrow (0.15in) (S8+2), Body 4.90 x 3.90 mm, Pitch 1.27 mm; Supplier 1: Digi-Key; Supplier Part Number 1: MAX4373TESA+-ND; Supplier 2: Mouser; Supplier Part Number 2: 700-MAX4373TESA; Mounting Technology: Surface Mount; Code_JEDEC: MS012; ComponentLink1Description: Manufacturer URL; ComponentLink1URL: http://www.maximintegrated.com/; ComponentLink2Description: Datasheet; ComponentLink2URL: http://datasheets.maximintegrated.com/en/ds/MAX4373-MAX4375.pdf; ComponentLink3Description: Package Specification; ComponentLink3URL: http://pdfserv.maximintegrated.com/package_dwgs/21-0041.PDF
footprint MAXM-S8+2_N (SOIC, 8-Leads, Body 4.90x3.90mm, Pitch 1.27mm, IPC Medium Density)
footprint MAXM-S8+2_L (SOIC, 8-Leads, Body 4.90x3.90mm, Pitch 1.27mm, IPC High Density)
footprint MAXM-S8+2_M (SOIC, 8-Leads, Body 4.90x3.90mm, Pitch 1.27mm, IPC Low Density)
pins: 1 VCC (power) "Supply Voltage Input", 2 OUT (out) "Voltage Output. VOUT is proportional to VSENSE (VRS+ - VRS-).", 3 CIN1 (in) "Comparator Input 1. Positive input of an internal comparator. The negative terminal is connected to a 0.6V internal reference.", 4 GND (power) "Ground", 5 ~{RESET} (in) "Reset Input. Resets the output latch of the comparator at CIN1.", 6 COUT1 (oc) "Open-Drain Comparator Output. Latching output of the comparator controlled by CIN1. Connect R\E\S\E\T\ to GND to disable the latch.", 7 RS- (in) "Load-Side Connection for the External Sense Resistor", 8 RS+ (in) "Power Connection to the External Sense Resistor"

## MAX4373TESA+T
designator U?
Low-cost, Micropower, High-Side Current-Sense Amplifier + Comparator + Reference, 20 V / V Gain, -40 to 85 degC, 8-Pin SOIC (S8+2), Pb-Free, Tape and Reel; PartNumber: MAX4373TESA+T; Bi-Dir. Curr. Sense: No; Gain: 20 V/V, 50 V/V ,100 V/V; DatasheetVersion: Rev. 4; PackageVersion: Rev. D, 10/2012; PackageReference: S8+2; PackageDescription: 8-Pin Small-Outline IC, Narrow (0.15in) (S8+2), Body 4.90 x 3.90 mm, Pitch 1.27 mm; Supplier 1: Digi-Key; Supplier Part Number 1: MAX4373TESA+T-ND; Supplier 2: Mouser; Supplier Part Number 2: 700-MAX4373TESA+T; Mounting Technology: Surface Mount; Code_JEDEC: MS012; ComponentLink1Description: Manufacturer URL; ComponentLink1URL: http://www.maximintegrated.com/; ComponentLink2Description: Datasheet; ComponentLink2URL: http://datasheets.maximintegrated.com/en/ds/MAX4373-MAX4375.pdf; ComponentLink3Description: Package Specification; ComponentLink3URL: http://pdfserv.maximintegrated.com/package_dwgs/21-0041.PDF
footprint MAXM-S8+2_N (SOIC, 8-Leads, Body 4.90x3.90mm, Pitch 1.27mm, IPC Medium Density)
footprint MAXM-S8+2_L (SOIC, 8-Leads, Body 4.90x3.90mm, Pitch 1.27mm, IPC High Density)
footprint MAXM-S8+2_M (SOIC, 8-Leads, Body 4.90x3.90mm, Pitch 1.27mm, IPC Low Density)
pins: 1 VCC (power) "Supply Voltage Input", 2 OUT (out) "Voltage Output. VOUT is proportional to VSENSE (VRS+ - VRS-).", 3 CIN1 (in) "Comparator Input 1. Positive input of an internal comparator. The negative terminal is connected to a 0.6V internal reference.", 4 GND (power) "Ground", 5 ~{RESET} (in) "Reset Input. Resets the output latch of the comparator at CIN1.", 6 COUT1 (oc) "Open-Drain Comparator Output. Latching output of the comparator controlled by CIN1. Connect R\E\S\E\T\ to GND to disable the latch.", 7 RS- (in) "Load-Side Connection for the External Sense Resistor", 8 RS+ (in) "Power Connection to the External Sense Resistor"

## MAX4373TESA-T
designator U?
Low-cost, Micropower, High-Side Current-Sense Amplifier + Comparator + Reference, 20 V / V Gain, -40 to 85 degC, 8-Pin SOIC (S8-2), Tape and Reel; PartNumber: MAX4373TESA-T; Bi-Dir. Curr. Sense: No; Gain: 20 V/V, 50 V/V ,100 V/V; DatasheetVersion: Rev. 4; PackageVersion: Rev. D, 10/2012; PackageReference: S8-2; PackageDescription: 8-Pin Small-Outline IC, Narrow (0.15in) (S8-2), Body 4.90 x 3.90 mm, Pitch 1.27 mm; Supplier 1: Digi-Key; Supplier Part Number 1: MAX4373TESA-T-ND; Supplier 2: Mouser; Supplier Part Number 2: 700-MAX4373TESA-T-; Mounting Technology: Surface Mount; Code_JEDEC: MS012; ComponentLink1Description: Manufacturer URL; ComponentLink1URL: http://www.maximintegrated.com/; ComponentLink2Description: Datasheet; ComponentLink2URL: http://datasheets.maximintegrated.com/en/ds/MAX4373-MAX4375.pdf; ComponentLink3Description: Package Specification; ComponentLink3URL: http://pdfserv.maximintegrated.com/package_dwgs/21-0041.PDF
footprint MAXM-S8-2_N (SOIC, 8-Leads, Body 4.90x3.90mm, Pitch 1.27mm, IPC Medium Density)
footprint MAXM-S8-2_L (SOIC, 8-Leads, Body 4.90x3.90mm, Pitch 1.27mm, IPC High Density)
footprint MAXM-S8-2_M (SOIC, 8-Leads, Body 4.90x3.90mm, Pitch 1.27mm, IPC Low Density)
pins: 1 VCC (power) "Supply Voltage Input", 2 OUT (out) "Voltage Output. VOUT is proportional to VSENSE (VRS+ - VRS-).", 3 CIN1 (in) "Comparator Input 1. Positive input of an internal comparator. The negative terminal is connected to a 0.6V internal reference.", 4 GND (power) "Ground", 5 ~{RESET} (in) "Reset Input. Resets the output latch of the comparator at CIN1.", 6 COUT1 (oc) "Open-Drain Comparator Output. Latching output of the comparator controlled by CIN1. Connect R\E\S\E\T\ to GND to disable the latch.", 7 RS- (in) "Load-Side Connection for the External Sense Resistor", 8 RS+ (in) "Power Connection to the External Sense Resistor"

## MAX4373TEUA
designator U?
Low-cost, Micropower, High-Side Current-Sense Amplifier + Comparator + Reference, 20 V / V Gain, -40 to 85 degC, 8-Pin SOP (U8-1); PartNumber: MAX4373TEUA; Bi-Dir. Curr. Sense: No; Gain: 20 V/V, 50 V/V ,100 V/V; DatasheetVersion: Rev. 4; PackageVersion: Rev. L, 08/2009; PackageReference: U8-1; PackageDescription: 8-Pin Micro-MAX, Thin Shrink Small-Outline (U8-1), Body 3 x 3 mm, Pitch 0.65mm; Supplier 1: Digi-Key; Supplier Part Number 1: MAX4373TEUA-ND; Supplier 2: Mouser; Supplier Part Number 2: 700-MAX4373TEUA-NR; Mounting Technology: Surface Mount; Code_JEDEC: MO-187; ComponentLink1Description: Manufacturer URL; ComponentLink1URL: http://www.maximintegrated.com/; ComponentLink2Description: Datasheet; ComponentLink2URL: http://datasheets.maximintegrated.com/en/ds/MAX4373-MAX4375.pdf; ComponentLink3Description: Package Specification; ComponentLink3URL: http://pdfserv.maximintegrated.com/package_dwgs/21-0036.PDF
footprint MAXM-U8-1_N (SOP, 8-Leads, Body 3x3mm, Pitch 0.65mm, IPC Medium Density)
footprint MAXM-U8-1_L (SOP, 8-Leads, Body 3x3mm, Pitch 0.65mm, IPC High Density)
footprint MAXM-U8-1_M (SOP, 8-Leads, Body 3x3mm, Pitch 0.65mm, IPC Low Density)
pins: 1 VCC (power) "Supply Voltage Input", 2 OUT (out) "Voltage Output. VOUT is proportional to VSENSE (VRS+ - VRS-).", 3 CIN1 (in) "Comparator Input 1. Positive input of an internal comparator. The negative terminal is connected to a 0.6V internal reference.", 4 GND (power) "Ground", 5 ~{RESET} (in) "Reset Input. Resets the output latch of the comparator at CIN1.", 6 COUT1 (oc) "Open-Drain Comparator Output. Latching output of the comparator controlled by CIN1. Connect R\E\S\E\T\ to GND to disable the latch.", 7 RS- (in) "Load-Side Connection for the External Sense Resistor", 8 RS+ (in) "Power Connection to the External Sense Resistor"

## MAX4373TEUA+
designator U?
Low-cost, Micropower, High-Side Current-Sense Amplifier + Comparator + Reference, 20 V / V Gain, -40 to 85 degC, 8-Pin SOP (U8+1), Pb-Free; PartNumber: MAX4373TEUA+; Bi-Dir. Curr. Sense: No; Gain: 20 V/V, 50 V/V ,100 V/V; DatasheetVersion: Rev. 4; PackageVersion: Rev. L, 08/2009; PackageReference: U8+1; PackageDescription: 8-Pin Micro-MAX, Thin Shrink Small-Outline (U8+1), Body 3 x 3 mm, Pitch 0.65 mm; Supplier 1: Digi-Key; Supplier Part Number 1: MAX4373TEUA+-ND; Supplier 2: Mouser; Supplier Part Number 2: 700-MAX4373TEUA; Mounting Technology: Surface Mount; Code_JEDEC: MO-187; ComponentLink1Description: Manufacturer URL; ComponentLink1URL: http://www.maximintegrated.com/; ComponentLink2Description: Datasheet; ComponentLink2URL: http://datasheets.maximintegrated.com/en/ds/MAX4373-MAX4375.pdf; ComponentLink3Description: Package Specification; ComponentLink3URL: http://pdfserv.maximintegrated.com/package_dwgs/21-0036.PDF
footprint MAXM-U8+1_N (SOP, 8-Leads, Body 3x3mm, Pitch 0.65mm, IPC Medium Density)
footprint MAXM-U8+1_L (SOP, 8-Leads, Body 3x3mm, Pitch 0.65mm, IPC High Density)
footprint MAXM-U8+1_M (SOP, 8-Leads, Body 3x3mm, Pitch 0.65mm, IPC Low Density)
pins: 1 VCC (power) "Supply Voltage Input", 2 OUT (out) "Voltage Output. VOUT is proportional to VSENSE (VRS+ - VRS-).", 3 CIN1 (in) "Comparator Input 1. Positive input of an internal comparator. The negative terminal is connected to a 0.6V internal reference.", 4 GND (power) "Ground", 5 ~{RESET} (in) "Reset Input. Resets the output latch of the comparator at CIN1.", 6 COUT1 (oc) "Open-Drain Comparator Output. Latching output of the comparator controlled by CIN1. Connect R\E\S\E\T\ to GND to disable the latch.", 7 RS- (in) "Load-Side Connection for the External Sense Resistor", 8 RS+ (in) "Power Connection to the External Sense Resistor"

## MAX4373TEUA+T
designator U?
Low-cost, Micropower, High-Side Current-Sense Amplifier + Comparator + Reference, 20 V / V Gain, -40 to 85 degC, 8-Pin SOP (U8+1), Pb-Free, Tape and Reel; PartNumber: MAX4373TEUA+T; Bi-Dir. Curr. Sense: No; Gain: 20 V/V, 50 V/V ,100 V/V; DatasheetVersion: Rev. 4; PackageVersion: Rev. L, 08/2009; PackageReference: U8+1; PackageDescription: 8-Pin Micro-MAX, Thin Shrink Small-Outline (U8+1), Body 3 x 3 mm, Pitch 0.65 mm; Supplier 1: Digi-Key; Supplier Part Number 1: MAX4373TEUA+T-ND; Supplier 2: Mouser; Supplier Part Number 2: 700-MAX4373TEUA+T; Mounting Technology: Surface Mount; Code_JEDEC: MO-187; ComponentLink1Description: Manufacturer URL; ComponentLink1URL: http://www.maximintegrated.com/; ComponentLink2Description: Datasheet; ComponentLink2URL: http://datasheets.maximintegrated.com/en/ds/MAX4373-MAX4375.pdf; ComponentLink3Description: Package Specification; ComponentLink3URL: http://pdfserv.maximintegrated.com/package_dwgs/21-0036.PDF
footprint MAXM-U8+1_N (SOP, 8-Leads, Body 3x3mm, Pitch 0.65mm, IPC Medium Density)
footprint MAXM-U8+1_L (SOP, 8-Leads, Body 3x3mm, Pitch 0.65mm, IPC High Density)
footprint MAXM-U8+1_M (SOP, 8-Leads, Body 3x3mm, Pitch 0.65mm, IPC Low Density)
pins: 1 VCC (power) "Supply Voltage Input", 2 OUT (out) "Voltage Output. VOUT is proportional to VSENSE (VRS+ - VRS-).", 3 CIN1 (in) "Comparator Input 1. Positive input of an internal comparator. The negative terminal is connected to a 0.6V internal reference.", 4 GND (power) "Ground", 5 ~{RESET} (in) "Reset Input. Resets the output latch of the comparator at CIN1.", 6 COUT1 (oc) "Open-Drain Comparator Output. Latching output of the comparator controlled by CIN1. Connect R\E\S\E\T\ to GND to disable the latch.", 7 RS- (in) "Load-Side Connection for the External Sense Resistor", 8 RS+ (in) "Power Connection to the External Sense Resistor"

## MAX4373TEUA+TG071
designator U?
Low-cost, Micropower, High-Side Current-Sense Amplifier + Comparator + Reference, 20 V / V Gain, -40 to 85 degC, 8-Pin SOP (U8+1), Pb-Free; PartNumber: MAX4373TEUA+TG071; Bi-Dir. Curr. Sense: No; Gain: 20 V/V, 50 V/V ,100 V/V; DatasheetVersion: Rev. 4; PackageVersion: Rev. L, 08/2009; PackageReference: U8+1; PackageDescription: 8-Pin Micro-MAX, Thin Shrink Small-Outline (U8+1), Body 3 x 3 mm, Pitch 0.65 mm; Supplier 1: Digi-Key; Supplier Part Number 1: MAX4373TEUA+TG071-ND; Supplier 2: Mouser; Supplier Part Number 2: 700-4373TEUA+TG071; Mounting Technology: Surface Mount; Code_JEDEC: MO-187; ComponentLink1Description: Manufacturer URL; ComponentLink1URL: http://www.maximintegrated.com/; ComponentLink2Description: Datasheet; ComponentLink2URL: http://datasheets.maximintegrated.com/en/ds/MAX4373-MAX4375.pdf; ComponentLink3Description: Package Specification; ComponentLink3URL: http://pdfserv.maximintegrated.com/package_dwgs/21-0036.PDF
footprint MAXM-U8+1_N (SOP, 8-Leads, Body 3x3mm, Pitch 0.65mm, IPC Medium Density)
footprint MAXM-U8+1_L (SOP, 8-Leads, Body 3x3mm, Pitch 0.65mm, IPC High Density)
footprint MAXM-U8+1_M (SOP, 8-Leads, Body 3x3mm, Pitch 0.65mm, IPC Low Density)
pins: 1 VCC (power) "Supply Voltage Input", 2 OUT (out) "Voltage Output. VOUT is proportional to VSENSE (VRS+ - VRS-).", 3 CIN1 (in) "Comparator Input 1. Positive input of an internal comparator. The negative terminal is connected to a 0.6V internal reference.", 4 GND (power) "Ground", 5 ~{RESET} (in) "Reset Input. Resets the output latch of the comparator at CIN1.", 6 COUT1 (oc) "Open-Drain Comparator Output. Latching output of the comparator controlled by CIN1. Connect R\E\S\E\T\ to GND to disable the latch.", 7 RS- (in) "Load-Side Connection for the External Sense Resistor", 8 RS+ (in) "Power Connection to the External Sense Resistor"

## MAX4373TEUA-T
designator U?
Low-cost, Micropower, High-Side Current-Sense Amplifier + Comparator + Reference, 20 V / V Gain, -40 to 85 degC, 8-Pin SOP (U8-1), Tape and Reel; PartNumber: MAX4373TEUA-T; Bi-Dir. Curr. Sense: No; Gain: 20 V/V, 50 V/V ,100 V/V; DatasheetVersion: Rev. 4; PackageVersion: Rev. L, 08/2009; PackageReference: U8-1; PackageDescription: 8-Pin Micro-MAX, Thin Shrink Small-Outline (U8-1), Body 3 x 3 mm, Pitch 0.65mm; Supplier 1: Digi-Key; Supplier Part Number 1: MAX4373TEUA-T-ND; Supplier 2: Mouser; Supplier Part Number 2: 700-MAX4373TEUA-T-; Mounting Technology: Surface Mount; Code_JEDEC: MO-187; ComponentLink1Description: Manufacturer URL; ComponentLink1URL: http://www.maximintegrated.com/; ComponentLink2Description: Datasheet; ComponentLink2URL: http://datasheets.maximintegrated.com/en/ds/MAX4373-MAX4375.pdf; ComponentLink3Description: Package Specification; ComponentLink3URL: http://pdfserv.maximintegrated.com/package_dwgs/21-0036.PDF
footprint MAXM-U8-1_N (SOP, 8-Leads, Body 3x3mm, Pitch 0.65mm, IPC Medium Density)
footprint MAXM-U8-1_L (SOP, 8-Leads, Body 3x3mm, Pitch 0.65mm, IPC High Density)
footprint MAXM-U8-1_M (SOP, 8-Leads, Body 3x3mm, Pitch 0.65mm, IPC Low Density)
pins: 1 VCC (power) "Supply Voltage Input", 2 OUT (out) "Voltage Output. VOUT is proportional to VSENSE (VRS+ - VRS-).", 3 CIN1 (in) "Comparator Input 1. Positive input of an internal comparator. The negative terminal is connected to a 0.6V internal reference.", 4 GND (power) "Ground", 5 ~{RESET} (in) "Reset Input. Resets the output latch of the comparator at CIN1.", 6 COUT1 (oc) "Open-Drain Comparator Output. Latching output of the comparator controlled by CIN1. Connect R\E\S\E\T\ to GND to disable the latch.", 7 RS- (in) "Load-Side Connection for the External Sense Resistor", 8 RS+ (in) "Power Connection to the External Sense Resistor"

## MAX4374FESD
designator U?
Low-cost, Micropower, High-Side Current-Sense Amplifier + 2 Comparators + Reference, 50 V / V Gain, -40 to 85 degC, 14-Pin SOIC (S14-1); PartNumber: MAX4374FESD; Bi-Dir. Curr. Sense: No; Gain: 20 V/V, 50 V/V ,100 V/V; DatasheetVersion: Rev. 4; PackageVersion: Rev. D, 10/2012; PackageReference: S14-1; PackageDescription: 14-Pin Small-Outline IC, Narrow (0.15in), Body 3.9 x 8.65 mm, Pitch 1.27 mm; Supplier 1: Digi-Key; Supplier Part Number 1: MAX4374FESD-ND; Supplier 2: Mouser; Supplier Part Number 2: 700-MAX4374FESD-NR; Mounting Technology: Surface Mount; Code_JEDEC: MS-012; ComponentLink1Description: Manufacturer URL; ComponentLink1URL: http://www.maximintegrated.com/; ComponentLink2Description: Datasheet; ComponentLink2URL: http://datasheets.maximintegrated.com/en/ds/MAX4373-MAX4375.pdf; ComponentLink3Description: Package Specification; ComponentLink3URL: http://pdfserv.maximintegrated.com/package_dwgs/21-0041.PDF
footprint MAXM-S14-1_N (SOIC, 14-Leads, Body 8.65x3.9mm, Pitch 1.27mm, IPC Medium Density)
footprint MAXM-S14-1_L (SOIC, 14-Leads, Body 8.65x3.9mm, Pitch 1.27mm, IPC High Density)
footprint MAXM-S14-1_M (SOIC, 14-Leads, Body 8.65x3.9mm, Pitch 1.27mm, IPC Low Density)
pins: 1 VCC (power) "Supply Voltage Input", 2 OUT (out) "Voltage Output. VOUT is proportional to VSENSE (VRS+ - VRS-).", 3 NC "No Connection. Not internally connected.", 4 CIN1 (in) "Comparator Input 1. Positive input of an internal comparator. The negative terminal is connected to a 0.6V internal reference.", 5 CIN2 (in) "Comparator Input 2. Terminal of a second internal comparator. The positive terminal for the MAX4374 and the negative terminal for the MAX4375. The other terminal is connected to a 0.6V internal reference.", 6 NC "No Connection. Not internally connected.", 7 GND (power) "Ground", 8 ~{RESET} (in) "Reset Input. Resets the output latch of the comparator at CIN1.", 9 NC "No Connection. Not internally connected.", 10 COUT2 (oc) "Open-Drain Comparator Output. Output of the second unlatched internal comparator.", 11 COUT1 (oc) "Open-Drain Comparator Output. Latching output of the comparator controlled by CIN1. Connect R\E\S\E\T\ to GND to disable the latch.", 12 NC "No Connection. Not internally connected.", 13 RS- (in) "Load-Side Connection for the External Sense Resistor", 14 RS+ (in) "Power Connection to the External Sense Resistor"

## MAX4374FESD+
designator U?
Low-cost, Micropower, High-Side Current-Sense Amplifier + 2 Comparators + Reference, 50 V / V Gain, -40 to 85 degC, 14-Pin SOIC (S14+1), Pb-Free; PartNumber: MAX4374FESD+; Bi-Dir. Curr. Sense: No; Gain: 20 V/V, 50 V/V ,100 V/V; DatasheetVersion: Rev. 4; PackageVersion: Rev. D, 10/2012; PackageReference: S14+1; PackageDescription: 14-Pin Small-Outline IC, Narrow (0.15in), Body 3.9 x 8.65 mm, Pitch 1.27 mm; Supplier 1: Digi-Key; Supplier Part Number 1: MAX4374FESD+-ND; Supplier 2: Mouser; Supplier Part Number 2: 700-MAX4374FESD; Mounting Technology: Surface Mount; Code_JEDEC: MS-012; ComponentLink1Description: Manufacturer URL; ComponentLink1URL: http://www.maximintegrated.com/; ComponentLink2Description: Datasheet; ComponentLink2URL: http://datasheets.maximintegrated.com/en/ds/MAX4373-MAX4375.pdf; ComponentLink3Description: Package Specification; ComponentLink3URL: http://pdfserv.maximintegrated.com/package_dwgs/21-0041.PDF
footprint MAXM-S14+1_N (SOIC, 14-Leads, Body 8.65x3.9mm, Pitch 1.27mm, IPC Medium Density)
footprint MAXM-S14+1_L (SOIC, 14-Leads, Body 8.65x3.9mm, Pitch 1.27mm, IPC High Density)
footprint MAXM-S14+1_M (SOIC, 14-Leads, Body 8.65x3.9mm, Pitch 1.27mm, IPC Low Density)
pins: 1 VCC (power) "Supply Voltage Input", 2 OUT (out) "Voltage Output. VOUT is proportional to VSENSE (VRS+ - VRS-).", 3 NC "No Connection. Not internally connected.", 4 CIN1 (in) "Comparator Input 1. Positive input of an internal comparator. The negative terminal is connected to a 0.6V internal reference.", 5 CIN2 (in) "Comparator Input 2. Terminal of a second internal comparator. The positive terminal for the MAX4374 and the negative terminal for the MAX4375. The other terminal is connected to a 0.6V internal reference.", 6 NC "No Connection. Not internally connected.", 7 GND (power) "Ground", 8 ~{RESET} (in) "Reset Input. Resets the output latch of the comparator at CIN1.", 9 NC "No Connection. Not internally connected.", 10 COUT2 (oc) "Open-Drain Comparator Output. Output of the second unlatched internal comparator.", 11 COUT1 (oc) "Open-Drain Comparator Output. Latching output of the comparator controlled by CIN1. Connect R\E\S\E\T\ to GND to disable the latch.", 12 NC "No Connection. Not internally connected.", 13 RS- (in) "Load-Side Connection for the External Sense Resistor", 14 RS+ (in) "Power Connection to the External Sense Resistor"